# Altium integrated library TC1-1-13MA+.IntLib: 1 symbol
Pins are listed as number, name and electrical type; pins without a type are passive.

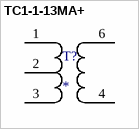
[diagram p0: symbol TC1-1-13MA+]

## TC1-1-13MA+
designator T?
footprint TC1-1-13MA+
pins: 1, 2, 3, 4, 6